# Altium schematic symbol library SJ-3524.SchLib: 1 symbol
Pins are listed as number, name and electrical type; pins without a type are passive.

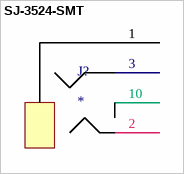
[diagram p0: symbol SJ-3524-SMT]

## SJ-3524-SMT
designator J?
pins: 1 GND (power), 2 AIN2P, 3 AIN1P, 10 NC